# EAGLE library part 284512-8 (library CONN, te 3.5m mm horiz 8 pin)
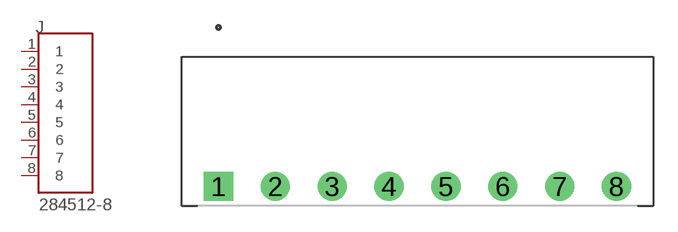
[diagram p0: symbol with the pads of TE_284512-8; footprint TE_284512-8]

Designator prefix J

## 284512-8 (MANUFACTURER: TE; PARTREV: R; STANDARD: Manufacturer Recommendations)  [TE_284512-8]
1  1  pas
2  2  pas
3  3  pas
4  4  pas
5  5  pas
6  6  pas
7  7  pas
8  8  pas

## Footprint TE_284512-8 (pad centres in mm)
drill 1.2 square: 1 -12.25,0
drill 1.2: 2 -8.75,0; 3 -5.25,0; 4 -1.75,0; 5 1.75,0; 6 5.25,0; 7 8.75,0; 8 12.25,0